# EAGLE library part AD5360BSTZ (library nw2s)
Digital-to-Analog Converters
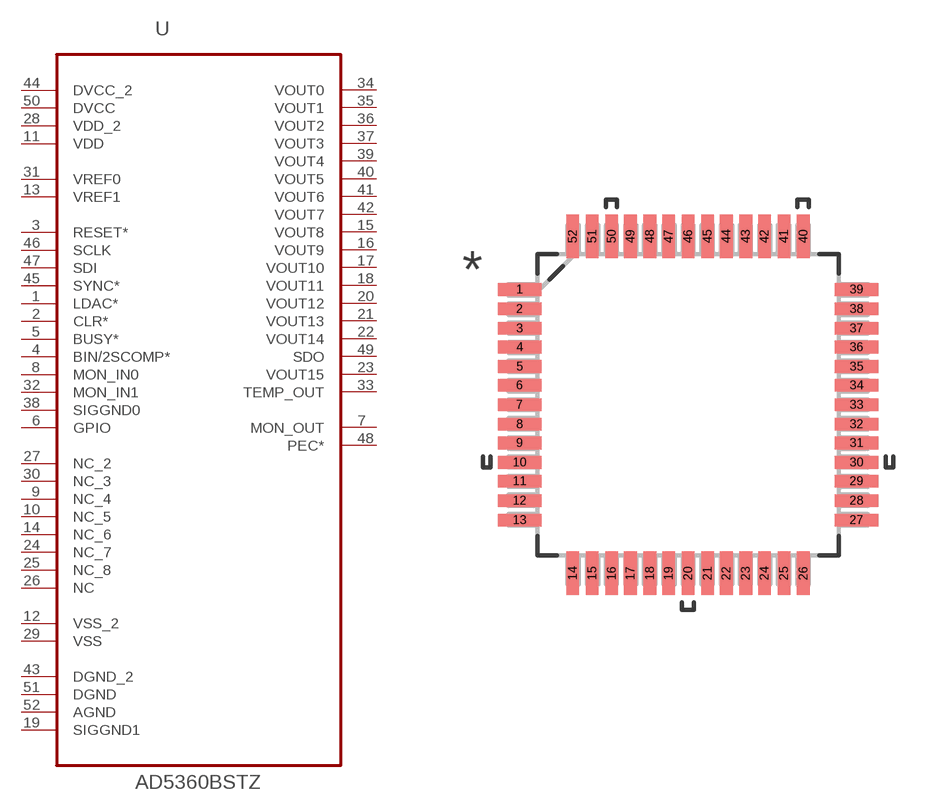
[diagram p24: symbol with the pads of QFP65P1200X1200X160-52N; footprint QFP65P1200X1200X160-52N]

Designator prefix U

## AD5360BSTZ (MPN: AD5360BSTZ; OC_FARNELL: unknown; OC_NEWARK: 34M4961; PACKAGE: LQFP-52; SUPPLIER: Analog Devices)  [QFP65P1200X1200X160-52N]
1  LDAC*  in
2  CLR*  in
3  RESET*  in
4  BIN/2SCOMP*  in
5  BUSY*
6  GPIO
7  MON_OUT  out
8  MON_IN0  in
9  NC_4  nc
10  NC_5  nc
11  VDD  pwr
12  VSS_2  pwr
13  VREF1  in
14  NC_6  nc
15  VOUT8  out
16  VOUT9  out
17  VOUT10  out
18  VOUT11  out
19  SIGGND1  pas
20  VOUT12  out
21  VOUT13  out
22  VOUT14  out
23  VOUT15  out
24  NC_7  nc
25  NC_8  nc
26  NC  nc
27  NC_2  nc
28  VDD_2  pwr
29  VSS  pwr
30  NC_3  nc
31  VREF0  in
32  MON_IN1  in
33  TEMP_OUT  out
34  VOUT0  out
35  VOUT1  out
36  VOUT2  out
37  VOUT3  out
38  SIGGND0  pas
39  VOUT4  out
40  VOUT5  out
41  VOUT6  out
42  VOUT7  out
43  DGND_2  pas
44  DVCC_2  pwr
45  SYNC*  in
46  SCLK  in
47  SDI  in
48  PEC*  out
49  SDO  out
50  DVCC  pwr
51  DGND  pas
52  AGND  pas

## Footprint QFP65P1200X1200X160-52N (pad centres in mm)
smd 1.473 x 0.432: 1 -5.715,3.912; 2 -5.715,3.251; 3 -5.715,2.591; 4 -5.715,1.956; 5 -5.715,1.295; 6 -5.715,0.66; 7 -5.715,0; 8 -5.715,-0.66; 9 -5.715,-1.295; 10 -5.715,-1.956; 11 -5.715,-2.591; 12 -5.715,-3.251; 13 -5.715,-3.912; 27 5.715,-3.912; 28 5.715,-3.251; 29 5.715,-2.591; 30 5.715,-1.956; 31 5.715,-1.295; 32 5.715,-0.66; 33 5.715,0; 34 5.715,0.66; 35 5.715,1.295; 36 5.715,1.956; 37 5.715,2.591; 38 5.715,3.251; 39 5.715,3.912
smd 0.432 x 1.473: 14 -3.912,-5.715; 15 -3.251,-5.715; 16 -2.591,-5.715; 17 -1.956,-5.715; 18 -1.295,-5.715; 19 -0.66,-5.715; 20 0,-5.715; 21 0.66,-5.715; 22 1.295,-5.715; 23 1.956,-5.715; 24 2.591,-5.715; 25 3.251,-5.715; 26 3.912,-5.715; 40 3.912,5.715; 41 3.251,5.715; 42 2.591,5.715; 43 1.956,5.715; 44 1.295,5.715; 45 0.66,5.715; 46 0,5.715; 47 -0.66,5.715; 48 -1.295,5.715; 49 -1.956,5.715; 50 -2.591,5.715; 51 -3.251,5.715; 52 -3.912,5.715